# Altium schematic symbol library FT260.SCHLIB: 3 symbols
Pins are listed as number, name and electrical type; pins without a type are passive.

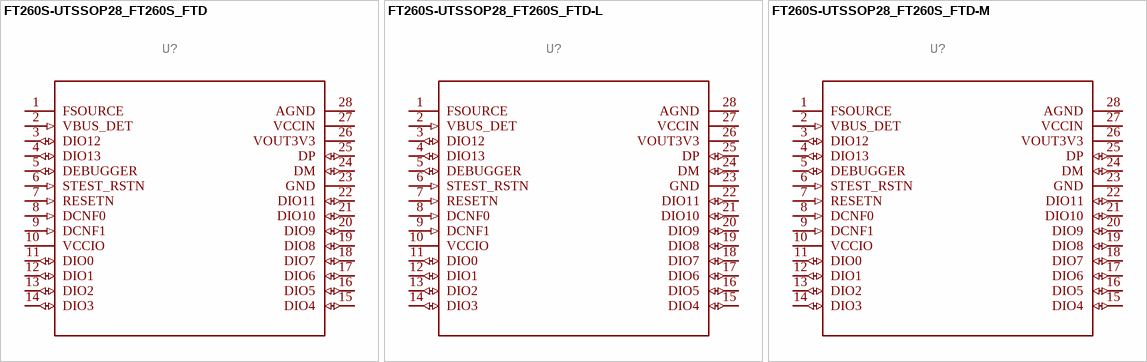
[diagram p0: symbols FT260S-UTSSOP28_FT260S_FTD to FT260S-UTSSOP28_FT260S_FTD-M]

## FT260S-UTSSOP28_FT260S_FTD
designator U?
Mfr_Name: FTDI, Future Technology Devices International Ltd; GateName_1: A; SymbolName_1: FT260S-U; DeviceName: TSSOP28_FT260S_FTD; LibraryName: 2024-10-31_11-49-55_Library; DeviceSetName: FT260S-U; Package: TSSOP28_FT260S_FTD; Copyright: Copyright (C) 2024 Ultra Librarian. All rights reserved.; Manufacturer_Part_Number: FT260S-U
footprint SOP65P640X110-28N
pins: 1 FSOURCE (power), 2 VBUS_DET (in), 3 DIO12 (io), 4 DIO13 (io), 5 DEBUGGER (io), 6 STEST_RSTN (in), 7 RESETN (in), 8 DCNF0 (in), 9 DCNF1 (in), 10 VCCIO (power), 11 DIO0 (io), 12 DIO1 (io), 13 DIO2 (io), 14 DIO3 (io), 15 DIO4 (io), 16 DIO5 (io), 17 DIO6 (io), 18 DIO7 (io), 19 DIO8 (io), 20 DIO9 (io), 21 DIO10 (io), 22 DIO11 (io), 23 GND, 24 DM (io), 25 DP (io), 26 VOUT3V3 (power), 27 VCCIN (power), 28 AGND

## FT260S-UTSSOP28_FT260S_FTD-L
designator U?
Mfr_Name: FTDI, Future Technology Devices International Ltd; GateName_1: A; SymbolName_1: FT260S-U; DeviceName: TSSOP28_FT260S_FTD-L; LibraryName: 2024-10-31_11-49-55_Library; DeviceSetName: FT260S-U; Package: TSSOP28_FT260S_FTD-L; Copyright: Copyright (C) 2024 Ultra Librarian. All rights reserved.; Manufacturer_Part_Number: FT260S-U
footprint SOP65P640X110-28N
pins: 1 FSOURCE (power), 2 VBUS_DET (in), 3 DIO12 (io), 4 DIO13 (io), 5 DEBUGGER (io), 6 STEST_RSTN (in), 7 RESETN (in), 8 DCNF0 (in), 9 DCNF1 (in), 10 VCCIO (power), 11 DIO0 (io), 12 DIO1 (io), 13 DIO2 (io), 14 DIO3 (io), 15 DIO4 (io), 16 DIO5 (io), 17 DIO6 (io), 18 DIO7 (io), 19 DIO8 (io), 20 DIO9 (io), 21 DIO10 (io), 22 DIO11 (io), 23 GND, 24 DM (io), 25 DP (io), 26 VOUT3V3 (power), 27 VCCIN (power), 28 AGND

## FT260S-UTSSOP28_FT260S_FTD-M
designator U?
Mfr_Name: FTDI, Future Technology Devices International Ltd; GateName_1: A; SymbolName_1: FT260S-U; DeviceName: TSSOP28_FT260S_FTD-M; LibraryName: 2024-10-31_11-49-55_Library; DeviceSetName: FT260S-U; Package: TSSOP28_FT260S_FTD-M; Copyright: Copyright (C) 2024 Ultra Librarian. All rights reserved.; Manufacturer_Part_Number: FT260S-U
footprint SOP65P640X110-28N
pins: 1 FSOURCE (power), 2 VBUS_DET (in), 3 DIO12 (io), 4 DIO13 (io), 5 DEBUGGER (io), 6 STEST_RSTN (in), 7 RESETN (in), 8 DCNF0 (in), 9 DCNF1 (in), 10 VCCIO (power), 11 DIO0 (io), 12 DIO1 (io), 13 DIO2 (io), 14 DIO3 (io), 15 DIO4 (io), 16 DIO5 (io), 17 DIO6 (io), 18 DIO7 (io), 19 DIO8 (io), 20 DIO9 (io), 21 DIO10 (io), 22 DIO11 (io), 23 GND, 24 DM (io), 25 DP (io), 26 VOUT3V3 (power), 27 VCCIN (power), 28 AGND